# EAGLE library part MCP2562-E/SN (library MCP2562-E_SN)
MCP2562 Series 5 V Surface Mount High-Speed CAN Transceiver - SOIC-8 Check availability <https://pricing.snapeda.com/parts/MCP2562-E/SN/Microchip/view-part?ref=eda>
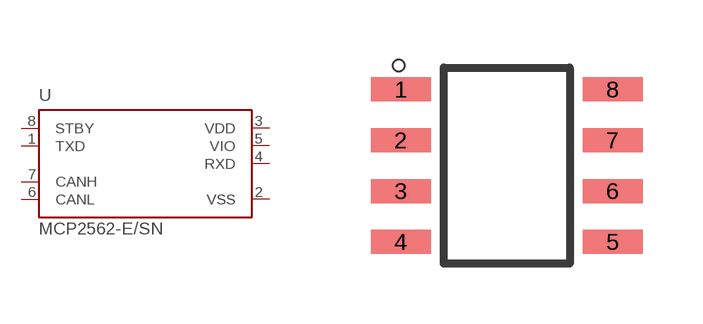
[diagram p0: symbol with the pads of SOIC127P600X175-8N; footprint SOIC127P600X175-8N]

Designator prefix U

## MCP2562-E/SN (Availability: In Stock; Description: Microchip MCP2562-E/SN, CAN Transceiver 1MBps 1-channel IEC 61000-4-2, 8-Pin SOIC; MF: Microchip; MP: MCP2562-E/SN; Package: SO-8 Microchip; Price: None; Purchase-URL: https://pricing.snapeda.com/search/part/MCP2562-E/SN/?ref=eda)  [SOIC127P600X175-8N]
1  TXD  in
2  VSS  pwr
3  VDD  pwr
4  RXD  out
5  VIO  pwr
6  CANL  in
7  CANH  in
8  STBY  in

## Footprint SOIC127P600X175-8N (pad centres in mm)
smd 1.5 x 0.6: 1 -2.65,1.905; 2 -2.65,0.635; 3 -2.65,-0.635; 4 -2.65,-1.905; 5 2.65,-1.905; 6 2.65,-0.635; 7 2.65,0.635; 8 2.65,1.905